# Altium schematic symbol library blum_SumoBRD_ECEN2440F24.SCHLIB: 27 symbols
Pins are listed as number, name and electrical type; pins without a type are passive.

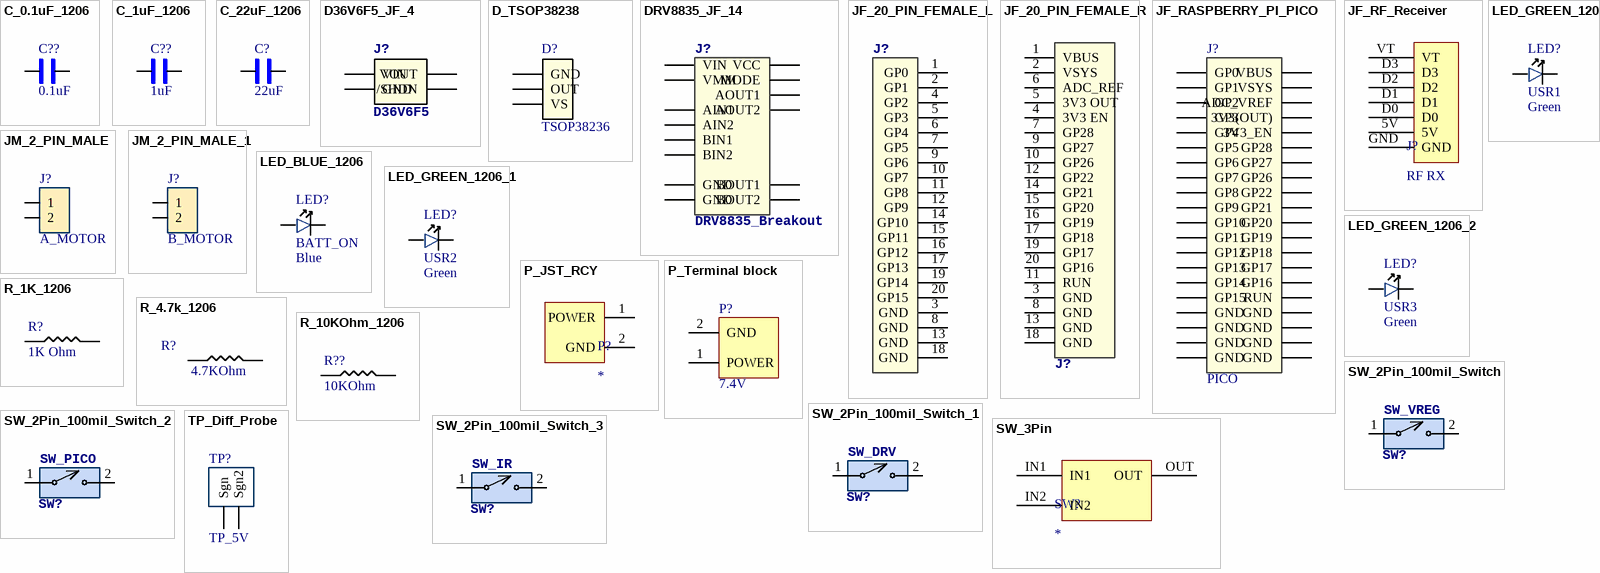
[diagram p0: symbols C_0.1uF_1206 to TP_Diff_Probe]

## C_0.1uF_1206
designator C??, comment 0.1uF
MULTILAYER CERAMIC CAPACITORS MLCC - SMD/SMT 0.1UF 50V 1206 ROHS; MFR Part #: CL31B104MBCNNNC; Type: Basic; Digikey Link: https://www.digikey.com/product-detail/en/C1206C105M4RACTU/399-8150-1-ND/3471873/?itemSeq=304982366; LCSC Part#: C730479; Value: 0.1uF
footprint 1206_Passive_Capacitor
pins: 1, 2

## C_1uF_1206
designator C??, comment 1uF
MULTILAYER CERAMIC CAPACITORS MLCC - SMD/SMT 1UF 50V 1206 ROHS; MFR Part #: CL31B105KBHNNNE; Type: Basic; Digikey Link: https://www.digikey.com/product-detail/en/C1206C105M4RACTU/399-8150-1-ND/3471873/?itemSeq=304982366; LCSC Part#: C1848; Value: 1uF
footprint 1206_Passive_Capacitor
pins: 1, 2

## C_22uF_1206
designator C?, comment 22uF
22uF ±10% 25V X5R 1206 Multilayer Ceramic Capacitors MLCC - SMD/SMT RoHS; MFR Part #: CL31A226KAHNNNE; Type: basic; LCSC Part#: C12891; Datasheet: https://datasheet.lcsc.com/lcsc/1811031514_Samsung-Electro-Mechanics-CL31A226KAHNNNE_C12891.pdf; Value: 22uF
footprint 1206_Passive_Capacitor
pins: 1, 2

## D36V6F5_JF_4
designator J?, comment D36V6F5
5V, 600mA Step Down Voltage Regulator, D36V6F5. 2.54mm, P=2.54mm, Female Headers ROHS; ComponentLink1Description: Breakout Board Link; ComponentLink1URL: https://www.pololu.com/product/3792
footprint D36V6F5_JF_4 (Female header, 4 pins, for D36V6F5 Voltage Regulator Breakout board)
pins: REG_GND GND, REG_SHDN /SHDN, REG_VIN VIN, REG_VOUT VOUT

## D_TSOP38238
designator D?, comment TSOP38236
IR Receiver, TSOP38236, 36 kHz
footprint D_TSOP38238 (TSOP38238)
pins: D_GND GND, D_OUT OUT, D_VS VS

## DRV8835_JF_14
designator J?, comment DRV8835_Breakout
Pololu DRV8835 Breakout Board / 2.54mm, P=2.54mm, Female Headers ROHS; ComponentLink1Description: Breakout Board Link; ComponentLink1URL: https://www.pololu.com/product/2135
footprint JF_14_DRV8835 (DRV8835 breakout board)
pins: 1 GND, 2 VIN, 3 BOUT2, 4 BOUT1, 5 AOUT2, 6 AOUT1, 7 VMM, 8 MODE, 9 AIN1, 10 AIN2, 11 BIN1, 12 BIN2, 13 VCC, 14 GND

## JF_20_PIN_FEMALE_L
designator J?, comment SAMTEC-SSQ-107-01-X-SJ  (value not drawn)
2.54mm Brass Straight 1x7P 7 1 Straight,P=2.54mm  Female Headers ROHS; MFR PART #: B-2200S07P-A120; MP: SAMTEC-SSQ-107-01-X-SJ; LCSC PART#: C124418
footprint JF-20-SSQ-1020-X
pins: 1 GP0, 2 GP1, 3 GND, 4 GP2, 5 GP3, 6 GP4, 7 GP5, 8 GND, 9 GP6, 10 GP7, 11 GP8, 12 GP9, 13 GND, 14 GP10, 15 GP11, 16 GP12, 17 GP13, 18 GND, 19 GP14, 20 GP15

## JF_20_PIN_FEMALE_R
designator J?, comment SAMTEC-SSQ-107-01-X-SJ  (value not drawn)
2.54mm Brass Straight 1x7P 7 1 Straight,P=2.54mm  Female Headers ROHS; MFR PART #: B-2200S07P-A120; MP: SAMTEC-SSQ-107-01-X-SJ; LCSC PART#: C124418
footprint JF-20-SSQ-1020-X
pins: 1 VBUS, 2 VSYS, 3 GND, 4 3V3 EN, 5 3V3 OUT, 6 ADC_REF, 7 GP28, 8 GND, 9 GP27, 10 GP26, 11 RUN, 12 GP22, 13 GND, 14 GP21, 15 GP20, 16 GP19, 17 GP18, 18 GND, 19 GP17, 20 GP16

## JF_RASPBERRY_PI_PICO
designator J?, comment PICO
footprint RASPBERRY_PI_PICO
pins: 1 GP0, 2 GP1, 3 GND, 4 GP2, 5 GP3, 6 GP4, 7 GP5, 8 GND, 9 GP6, 10 GP7, 11 GP8, 12 GP9, 13 GND, 14 GP10, 15 GP11, 16 GP12, 17 GP13, 18 GND, 19 GP14, 20 GP15, 21 GP16, 22 GP17, 23 GND, 24 GP18, 25 GP19, 26 GP20, 27 GP21, 28 GND, 29 GP22, 30 RUN, 31 GP26, 32 GP27, 33 GND, 34 GP28, 35 ADC_VREF, 36 3V3(OUT), 37 3V3_EN, 38 GND, 39 VSYS, 40 VBUS

## JF_RF_Receiver
designator J?, comment RF RX
RF Receiver, 7 pin
footprint JF_RF_Receiver (7 pin female header)
pins: 5V, D0, D1, D2, D3, GND, VT  VT

## JM_2_PIN_MALE
designator J?, comment A_MOTOR
2.54mm Straight 2 1 Header，Breakaway Through Hole,P=2.54mm Pin Header & Female Header ROHS; MFR Part #: B-2100S02P-A110; Type: Extended; Datasheet: https://datasheet.lcsc.com/lcsc/1811151421_Ckmtw-Shenzhen-Cankemeng-B-2100S02P-A110_C124375.pdf; LCSC Part#: C124375
footprint 2_PIN_100MIL
pins: 1, 2

## JM_2_PIN_MALE_1
designator J?, comment B_MOTOR
2.54mm Straight 2 1 Header，Breakaway Through Hole,P=2.54mm Pin Header & Female Header ROHS; MFR Part #: B-2100S02P-A110; Type: Extended; Datasheet: https://datasheet.lcsc.com/lcsc/1811151421_Ckmtw-Shenzhen-Cankemeng-B-2100S02P-A110_C124375.pdf; LCSC Part#: C124375
footprint 2_PIN_100MIL
pins: 1, 2

## LED_BLUE_1206
designator LED?, comment BATT_ON  value Blue
blue 1206  Light Emitting Diodes (LED) ROHS; MFR Part #: NCD1206B1; Type: Extended; LCSC Part#: C130717; Datasheet: https://datasheet.lcsc.com/lcsc/2008201033_Foshan-NationStar-Optoelectronics-NCD1206B1_C130717.pdf
footprint LED_1206
pins: 1, 2

## LED_GREEN_1206
designator LED?, comment USR1  value Green
Green 513~528nm 1206 Light Emitting Diodes (LED) RoHS; MFR Part #: SZYY1206G; Type: Extended; LCSC Part#: C434439; Datasheet: https://datasheet.lcsc.com/lcsc/2006301532_Yongyu-Photoelectric-SZYY1206G_C434439.pdf
footprint LED_1206
pins: 1, 2

## LED_GREEN_1206_1
designator LED?, comment USR2  value Green
Green 513~528nm 1206 Light Emitting Diodes (LED) RoHS; MFR Part #: SZYY1206G; Type: Extended; LCSC Part#: C434439; Datasheet: https://datasheet.lcsc.com/lcsc/2006301532_Yongyu-Photoelectric-SZYY1206G_C434439.pdf
footprint LED_1206
pins: 1, 2

## LED_GREEN_1206_2
designator LED?, comment USR3  value Green
Green 513~528nm 1206 Light Emitting Diodes (LED) RoHS; MFR Part #: SZYY1206G; Type: Extended; LCSC Part#: C434439; Datasheet: https://datasheet.lcsc.com/lcsc/2006301532_Yongyu-Photoelectric-SZYY1206G_C434439.pdf
footprint LED_1206
pins: 1, 2

## P_JST_RCY
designator P?
JST RCY for LiPO battery
footprint P_JST_RCY (JST RCY)
pins: 1 POWER, 2 GND

## P_Terminal block
designator P?, comment 7.4V
Green Straight pin 3.5mm  pitch; P=3.5mm  Screw terminal ROHS; MFR Part #: KF350-3.5-2P; Manufacturer: Cixi Kefa Elec; LCSC Part#: C474892; DataSheet: https://datasheet.lcsc.com/lcsc/2001160007_Cixi-Kefa-Elec-KF350-3-5-2P_C474892.pdf
footprint P_Terminal block 3.5mm-pitch
pins: 1 POWER, 2 GND

## R_1K_1206
designator R?, comment value 1K Ohm  (hidden comment: 1k)
CHIP RESISTOR - SURFACE MOUNT 1KOHMS ±1% 1/4W 1206 ROHS; MFR Part #: RNCP1206FTD1K00CT; Digikey Link: https://www.digikey.com/product-detail/en/RNCP1206FTD1K00/RNCP1206FTD1K00CT-ND/2240675/?itemSeq=304982373; LCSC Part#: C4410; Type: Basic
footprint 1206_Passive_Resitor
pins: 1, 2

## R_4.7k_1206
designator R?, comment 4.7KOhm
4.7kΩ ±1% 0.25W ±100ppm/℃ 1206 Chip Resistor - Surface Mount RoHS; MFR Part #: 1206W4F4701T5E; LCSC Part#: C17936; Datasheet: https://datasheet.lcsc.com/lcsc/1810301414_UNI-ROYAL-Uniroyal-Elec-1206W4F4701T5E_C17936.pdf; Type: Basic; Value: 4.7KOhm
footprint 1206_Passive_Resitor
pins: 1, 2

## R_10KOhm_1206
designator R??, comment value 10KOhm  (hidden comment: 10k)
10 kOhms ±5% 0.25W, 1/4W Chip Resistor 1206 (3216 Metric) Automotive AEC-Q200 Thick Film; MFR Part #: RMCF1206FT10K0; Digikey Link: https://www.digikey.com/en/products/detail/stackpole-electronics-inc/RMCF1206FT10K0/1759669; LCSC Part#: C17902; Type: Basic
footprint 1206_Passive_Resitor
pins: 1, 2

## SW_2Pin_100mil_Switch
designator SW?, comment SW_VREG
2Pin Header; LCSC Part#: C124375; Type: Extended
footprint 2Pin-Header-Conn
pins: 1, 2

## SW_2Pin_100mil_Switch_1
designator SW?, comment SW_DRV
2Pin Header; LCSC Part#: C124375; Type: Extended
footprint 2Pin-Header-Conn
pins: 1, 2

## SW_2Pin_100mil_Switch_2
designator SW?, comment SW_PICO
2Pin Header; LCSC Part#: C124375; Type: Extended
footprint 2Pin-Header-Conn
pins: 1, 2

## SW_2Pin_100mil_Switch_3
designator SW?, comment SW_IR
2Pin Header; LCSC Part#: C124375; Type: Extended
footprint 2Pin-Header-Conn
pins: 1, 2

## SW_3Pin
designator SW?
3Pin Header
footprint 3PIN_SWITCH (3 pin male header)
pins: IN1, IN2, OUT

## TP_Diff_Probe
designator TP?, comment TP_5V
Test Point 300 mil centers
footprint TP_Diff_Probe
pins: 1 Sgn, 2 Sgn2